# EAGLE library part THN_15-2411WI (library THN_15-2411WI)
TRACOPOWER - THN 15-2411WI - DC/DC CONVERTER, 15W, 5V, 3A Source: Datasheet <http://uk.rs-online.com/web/p/products/0438424P>
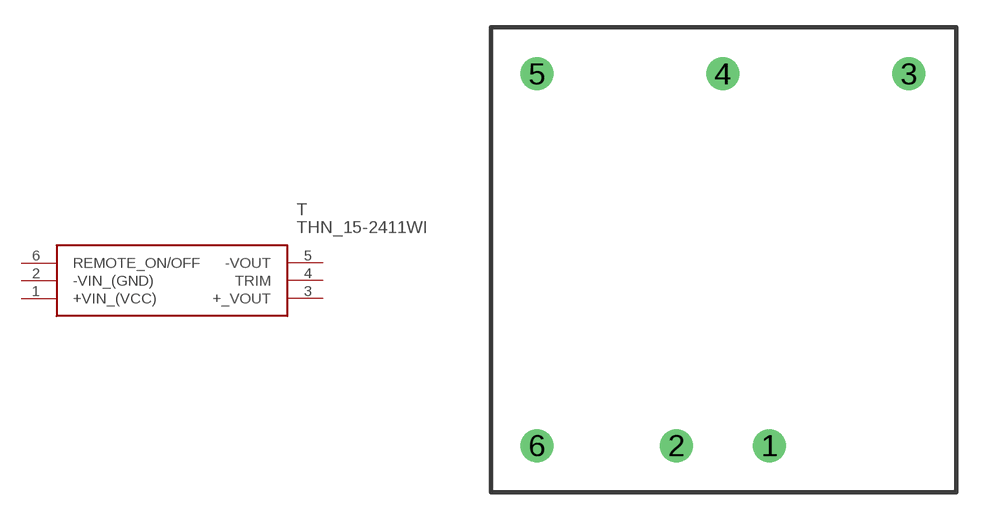
[diagram p0: symbol with the pads of THN15-2411WI; footprint THN15-2411WI]

Designator prefix T

## THN_15-2411WI (Description: TRACOPOWER - THN 15-2411WI - DC/DC CONVERTER, 15W, 5V, 3A; Height: mm; Manufacturer_Name: Traco Power; Manufacturer_Part_Number: THN 15-2411WI; RS_Part_Number: 0438424P; RS_Price-Stock: http://uk.rs-online.com/web/p/products/0438424P)  [THN15-2411WI]
1  +VIN_(VCC)
2  -VIN_(GND)
3  +_VOUT
4  TRIM
5  -VOUT
6  REMOTE_ON/OFF

## Footprint THN15-2411WI (pad centres in mm)
THN15-2411WI
drill 1.2 pad 1.8: 1 15.2,2.54; 2 10.12,2.54; 3 22.82,22.86; 4 12.66,22.86; 5 2.5,22.86; 6 2.5,2.54